# EAGLE library part WM8727 (library jt-wolfson)
16-24 bit stereo DAC, I2S format
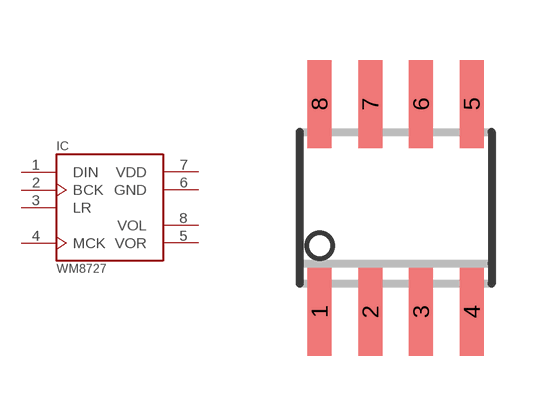
[diagram p0: symbol with the pads of SO-08; footprint SO-08]

Designator prefix IC

## WM8727  [SO-08]
1  DIN  in
2  BCK  in
3  LR  in
4  MCK  in
5  VOR  out
6  GND  pwr
7  VDD  pwr
8  VOL  out

## Footprint SO-08 (pad centres in mm)
Small Outline Narrow Plastic Gull Wing 150-mil body, package type SN
smd 0.6 x 2.2: 1 -1.905,-2.6; 2 -0.635,-2.6; 3 0.635,-2.6; 4 1.905,-2.6; 5 1.905,2.6; 6 0.635,2.6; 7 -0.635,2.6; 8 -1.905,2.6